# EAGLE library part MP2333H (library MP2333H)
MP2333H 4.2 - 18V Input, 3A, 1.2MHz Synchronous Buck Converter with Power Good and Soft Start in SOT583 (1.6x2mm) Package Mouser: 946-MP2333HGTL-P
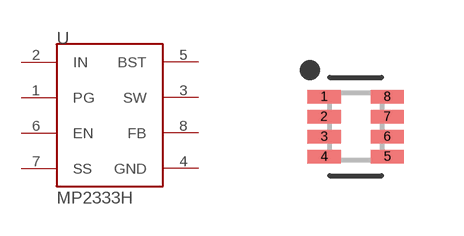
[diagram p0: symbol with the pads of SOTFL50P175X60-8N; footprint SOTFL50P175X60-8N]

Designator prefix -

## MP2333HSOT583  [SOTFL50P175X60-8N]
1  PG  out
2  IN  in
3  SW  pas
4  GND  in
5  BST  pas
6  EN  in
7  SS  in
8  FB  in

## Footprint SOTFL50P175X60-8N (pad centres in mm)
8-SOTFL, 0.50 mm pitch, 1.75 mm span, 1.60 X 1.20 X 0.60 mm body 8-pin SOTFL package with 0.50 mm pitch, 1.75 mm span with body size 1.60 X 1.20 X 0.60 mm
smd 0.83 x 0.337: 1 -0.791,0.75; 2 -0.791,0.25; 3 -0.791,-0.25; 4 -0.791,-0.75; 5 0.791,-0.75; 6 0.791,-0.25; 7 0.791,0.25; 8 0.791,0.75